# EAGLE library part MC100LVEL14DWG (library ON Semiconductor_By_element14_Batch_1)
3.3V ECL 1:5 Clock Distribution Chip
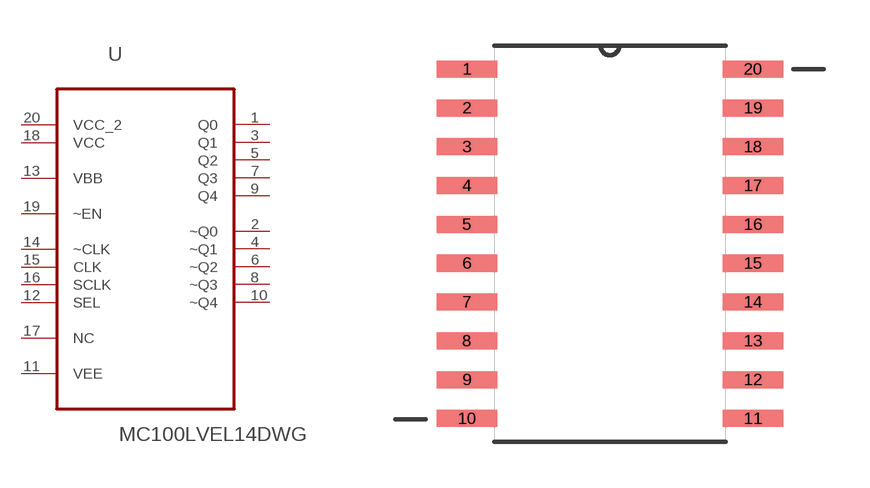
[diagram p142: symbol with the pads of SOIC127P1030X265-20N; footprint SOIC127P1030X265-20N]

Designator prefix U

## MC100LVEL14DWG (MPN: MC100LVEL14DWG; OC_FARNELL: 1192080; OC_NEWARK: 98H0640; P1I: o; PACKAGE: SOIC-20; SUPPLIER: On Semiconductor)  [SOIC127P1030X265-20N]
1  Q0  out
2  ~Q0  out
3  Q1  out
4  ~Q1  out
5  Q2  out
6  ~Q2  out
7  Q3  out
8  ~Q3  out
9  Q4  out
10  ~Q4  out
11  VEE  pwr
12  SEL  in
13  VBB  in
14  ~CLK  in
15  CLK  in
16  SCLK  in
17  NC  nc
18  VCC  pwr
19  ~EN  in
20  VCC_2  pwr

## Footprint SOIC127P1030X265-20N (pad centres in mm)
smd 1.981 x 0.559: 1 -4.674,5.715; 2 -4.674,4.445; 3 -4.674,3.175; 4 -4.674,1.905; 5 -4.674,0.635; 6 -4.674,-0.635; 7 -4.674,-1.905; 8 -4.674,-3.175; 9 -4.674,-4.445; 10 -4.674,-5.715; 11 4.674,-5.715; 12 4.674,-4.445; 13 4.674,-3.175; 14 4.674,-1.905; 15 4.674,-0.635; 16 4.674,0.635; 17 4.674,1.905; 18 4.674,3.175; 19 4.674,4.445; 20 4.674,5.715